# Altium footprint library te_connectivity_dsub_connectors.PcbLib: 1 footprints
Each footprint in its own frame and in the unit in brackets; x right, y up, seen from the top. Pads: shape width x height; smd on the part's side, far side on the other; paste and mask are expansions set on the pad; w line width, h text height; cw(c..) or ccw(c..) is an arc to the next point about the centre after c.
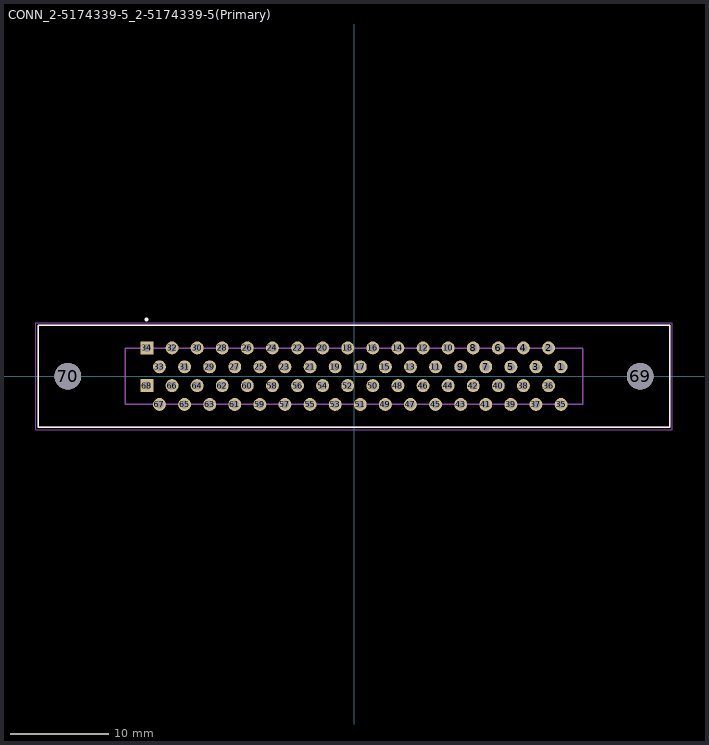
[diagram p0: the footprint, top view; thin cyan lines are the x and y axes]

## CONN_2-5174339-5_2-5174339-5(Primary) [mm] "68 Position D-Type Cap, Male Pins Connector"
height 9.3
pads (70):
  round 1.308 hole 0.8: 1(20.955,0.953) 2(19.685,2.857) 3(18.415,0.953) 4(17.145,2.857) 5(15.875,0.953) 6(14.605,2.857) 7(13.335,0.953) 8(12.065,2.857) 9(10.795,0.953) 10(9.525,2.857) 11(8.255,0.953) 12(6.985,2.857) 13(5.715,0.953) 14(4.445,2.857) 15(3.175,0.953) 16(1.905,2.857) 17(0.635,0.953) 18(-0.635,2.857) 19(-1.905,0.953) 20(-3.175,2.857) 21(-4.445,0.953) 22(-5.715,2.857) 23(-6.985,0.953) 24(-8.255,2.857) 25(-9.525,0.953) 26(-10.795,2.857) 27(-12.065,0.953) 28(-13.335,2.857) 29(-14.605,0.953) 30(-15.875,2.857) 31(-17.145,0.953) 32(-18.415,2.857) 33(-19.685,0.953) 35(20.955,-2.857) 36(19.685,-0.953) 37(18.415,-2.857) 38(17.145,-0.953) 39(15.875,-2.857) 40(14.605,-0.953) 41(13.335,-2.857) 42(12.065,-0.953) 43(10.795,-2.857) 44(9.525,-0.953) 45(8.255,-2.857) 46(6.985,-0.953) 47(5.715,-2.857) 48(4.445,-0.953) 49(3.175,-2.857) 50(1.905,-0.953) 51(0.635,-2.857) 52(-0.635,-0.953) 53(-1.905,-2.857) 54(-3.175,-0.953) 55(-4.445,-2.857) 56(-5.715,-0.953) 57(-6.985,-2.857) 58(-8.255,-0.953) 59(-9.525,-2.857) 60(-10.795,-0.953) 61(-12.065,-2.857) 62(-13.335,-0.953) 63(-14.605,-2.857) 64(-15.875,-0.953) 65(-17.145,-2.857) 66(-18.415,-0.953) 67(-19.685,-2.857)
  rect 1.308x1.308 hole 0.8: 34(-20.955,2.857) 68(-20.955,-0.953)
  round 2.7 hole 2.7 unplated: 69(28.955,0) 70(-28.955,0)
Top Overlay:
  circle w0.2: c-21,5.75 r0.1
  lines w0.152: -31.95,-5.15 31.95,-5.15 31.95,5.15 -31.95,5.15 -31.95,-5.15
Top Fab Assembly - M13:
  lines w0.152: -31.95,-5.15 31.95,-5.15 ; -31.95,-5.15 -31.95,5.15 ; -31.95,-5.15 31.95,-5.15 ; -31.95,-5.15 -31.95,5.15 ; -31.95,5.15 31.95,5.15 ; -31.95,5.15 31.95,5.15 ; -23.14,-2.85 -23.14,2.85 ; -23.14,-2.85 23.14,-2.85 ; -23.14,-2.85 -23.14,2.85 ; -23.14,-2.85 23.14,-2.85 ; -23.14,2.85 23.14,2.85 ; -23.14,2.85 23.14,2.85 ; 23.14,-2.85 23.14,2.85 ; 23.14,-2.85 23.14,2.85 ; 31.95,-5.15 31.95,5.15 ; 31.95,-5.15 31.95,5.15
Top Courtyard - M15:
  lines w0.05: -32.2,-5.4 32.2,-5.4 32.2,5.4 -32.2,5.4 -32.2,-5.4
3D body "c-2-5174339-5-a-3d.stp": height 9.3, standoff -3.1, extent -31.955,-5.15 31.955,5.15